# Altium footprint library SRF1280.PcbLib: 1 footprints
Each footprint in its own frame and in the unit in brackets; x right, y up, seen from the top. Pads: shape width x height; smd on the part's side, far side on the other; paste and mask are expansions set on the pad; w line width, h text height; cw(c..) or ccw(c..) is an arc to the next point about the centre after c.
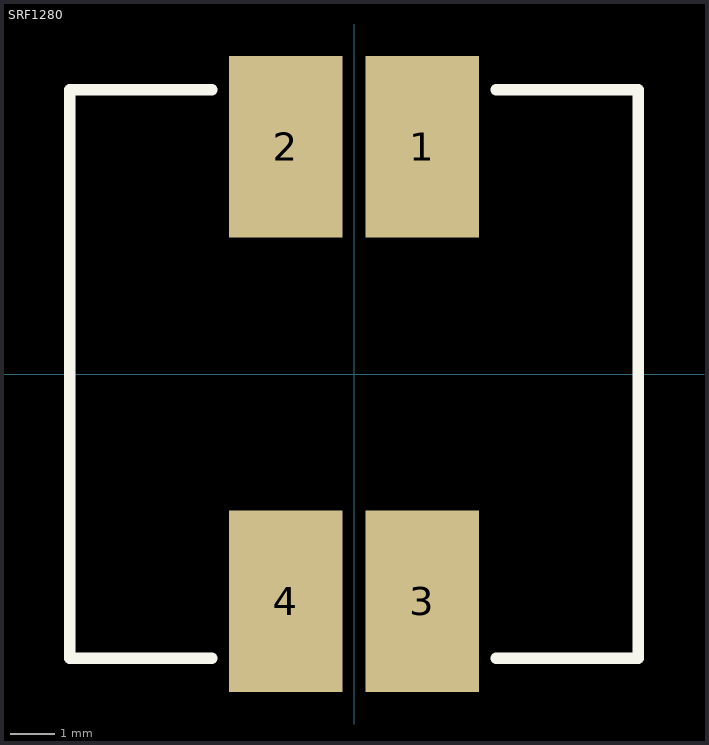
[diagram p0: the footprint, top view; thin cyan lines are the x and y axes]

## SRF1280 [mil]
pads (4):
  rect 100x160 smd: 1(60,200) 2(-60,200) 3(60,-200) 4(-60,-200)
Top Overlay:
  lines w10: -125,-250 -250,-250 -250,250 -125,250 ; 125,-250 250,-250 250,250 125,250